# Altium footprint library TSSOP28.PcbLib: 3 footprints
Each footprint in its own frame and in the unit in brackets; x right, y up, seen from the top. Pads: shape width x height; smd on the part's side, far side on the other; paste and mask are expansions set on the pad; w line width, h text height; cw(c..) or ccw(c..) is an arc to the next point about the centre after c.
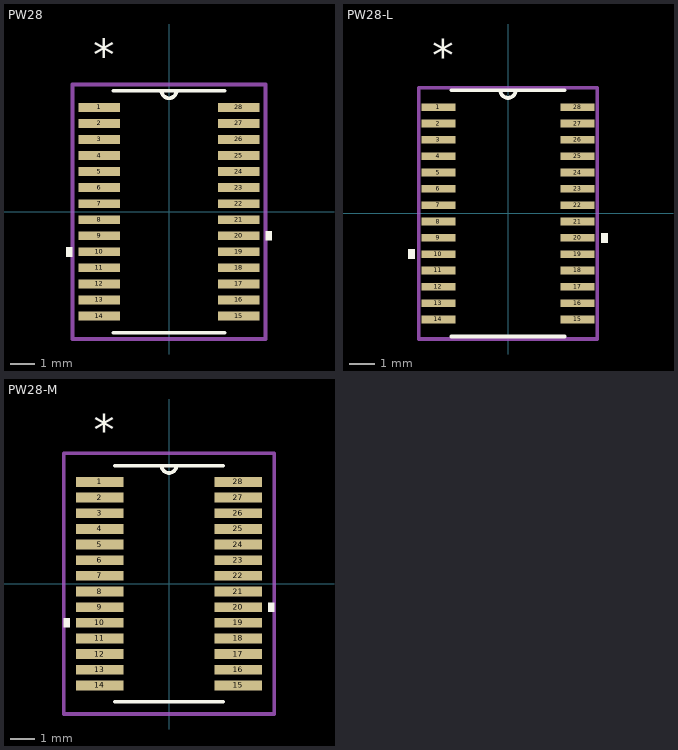
[diagram p0: the footprints below, top view; thin cyan lines are the x and y axes]

## PW28 [mil]
pads (28):
  rect 66x14 smd: 1(-111,166.34) 2(-111,140.75) 3(-111,115.16) 4(-111,89.57) 5(-111,63.98) 6(-111,38.39) 7(-111,12.8) 8(-111,-12.8) 9(-111,-38.39) 10(-111,-63.98) 11(-111,-89.57) 12(-111,-115.16) 13(-111,-140.75) 14(-111,-166.34) 15(111,-166.34) 16(111,-140.75) 17(111,-115.16) 18(111,-89.57) 19(111,-63.98) 20(111,-38.39) 21(111,-12.8) 22(111,12.8) 23(111,38.39) 24(111,63.98) 25(111,89.57) 26(111,115.16) 27(111,140.75) 28(111,166.34)
Top Overlay:
  region: -154,-56.48 -164,-56.48 -164,-71.48 -154,-71.48
  region: 154,-30.89 164,-30.89 164,-45.89 154,-45.89
  lines w6: -88.5,-193 88.5,-193 ; -88.5,193 88.5,193 ; -12,193 ccw(c0,193) 12,193
  text "*" at -121,225.34 h50
Mechanical 13:
  lines w0: -12,193 ccw(c0,193) 12,193
  text "*" at -121,225.34 h50
Mechanical 15:
  lines w6: -154,-203 -154,203 154,203 154,-203 -154,-203

## PW28-L [mil]
pads (28):
  rect 54x12 smd: 1(-109,166.34) 2(-109,140.75) 3(-109,115.16) 4(-109,89.57) 5(-109,63.98) 6(-109,38.39) 7(-109,12.8) 8(-109,-12.8) 9(-109,-38.39) 10(-109,-63.98) 11(-109,-89.57) 12(-109,-115.16) 13(-109,-140.75) 14(-109,-166.34) 15(109,-166.34) 16(109,-140.75) 17(109,-115.16) 18(109,-89.57) 19(109,-63.98) 20(109,-38.39) 21(109,-12.8) 22(109,12.8) 23(109,38.39) 24(109,63.98) 25(109,89.57) 26(109,115.16) 27(109,140.75) 28(109,166.34)
Top Overlay:
  region: -146,-56.48 -156,-56.48 -156,-71.48 -146,-71.48
  region: 146,-30.89 156,-30.89 156,-45.89 146,-45.89
  lines w6: -88.5,-193 88.5,-193 ; -88.5,193 88.5,193 ; -12,193 ccw(c0,193) 12,193
  text "*" at -119,223.34 h50
Mechanical 13:
  lines w0: -12,193 ccw(c0,193) 12,193
  text "*" at -119,223.34 h50
Mechanical 15:
  lines w6: -140,-197 -140,197 140,197 140,-197 -140,-197

## PW28-M [mil]
pads (28):
  rect 78x16 smd: 1(-113,166.34) 2(-113,140.75) 3(-113,115.16) 4(-113,89.57) 5(-113,63.98) 6(-113,38.39) 7(-113,12.8) 8(-113,-12.8) 9(-113,-38.39) 10(-113,-63.98) 11(-113,-89.57) 12(-113,-115.16) 13(-113,-140.75) 14(-113,-166.34) 15(113,-166.34) 16(113,-140.75) 17(113,-115.16) 18(113,-89.57) 19(113,-63.98) 20(113,-38.39) 21(113,-12.8) 22(113,12.8) 23(113,38.39) 24(113,63.98) 25(113,89.57) 26(113,115.16) 27(113,140.75) 28(113,166.34)
Top Overlay:
  region: 162,-30.89 172,-30.89 172,-45.89 162,-45.89
  region: -162,-56.48 -172,-56.48 -172,-71.48 -162,-71.48
  lines w6: -88.5,-193 88.5,-193 ; -88.5,193 88.5,193 ; -12,193 ccw(c0,193) 12,193
  text "*" at -123,227.34 h50
Mechanical 13:
  lines w0: -12,193 ccw(c0,193) 12,193
  text "*" at -123,227.34 h50
Mechanical 15:
  lines w6: -172,-213 172,-213 172,213 -172,213 -172,-213